# Altium schematic symbol library sym.SCHLIB: 33 symbols
Pins are listed as number, name and electrical type; pins without a type are passive.

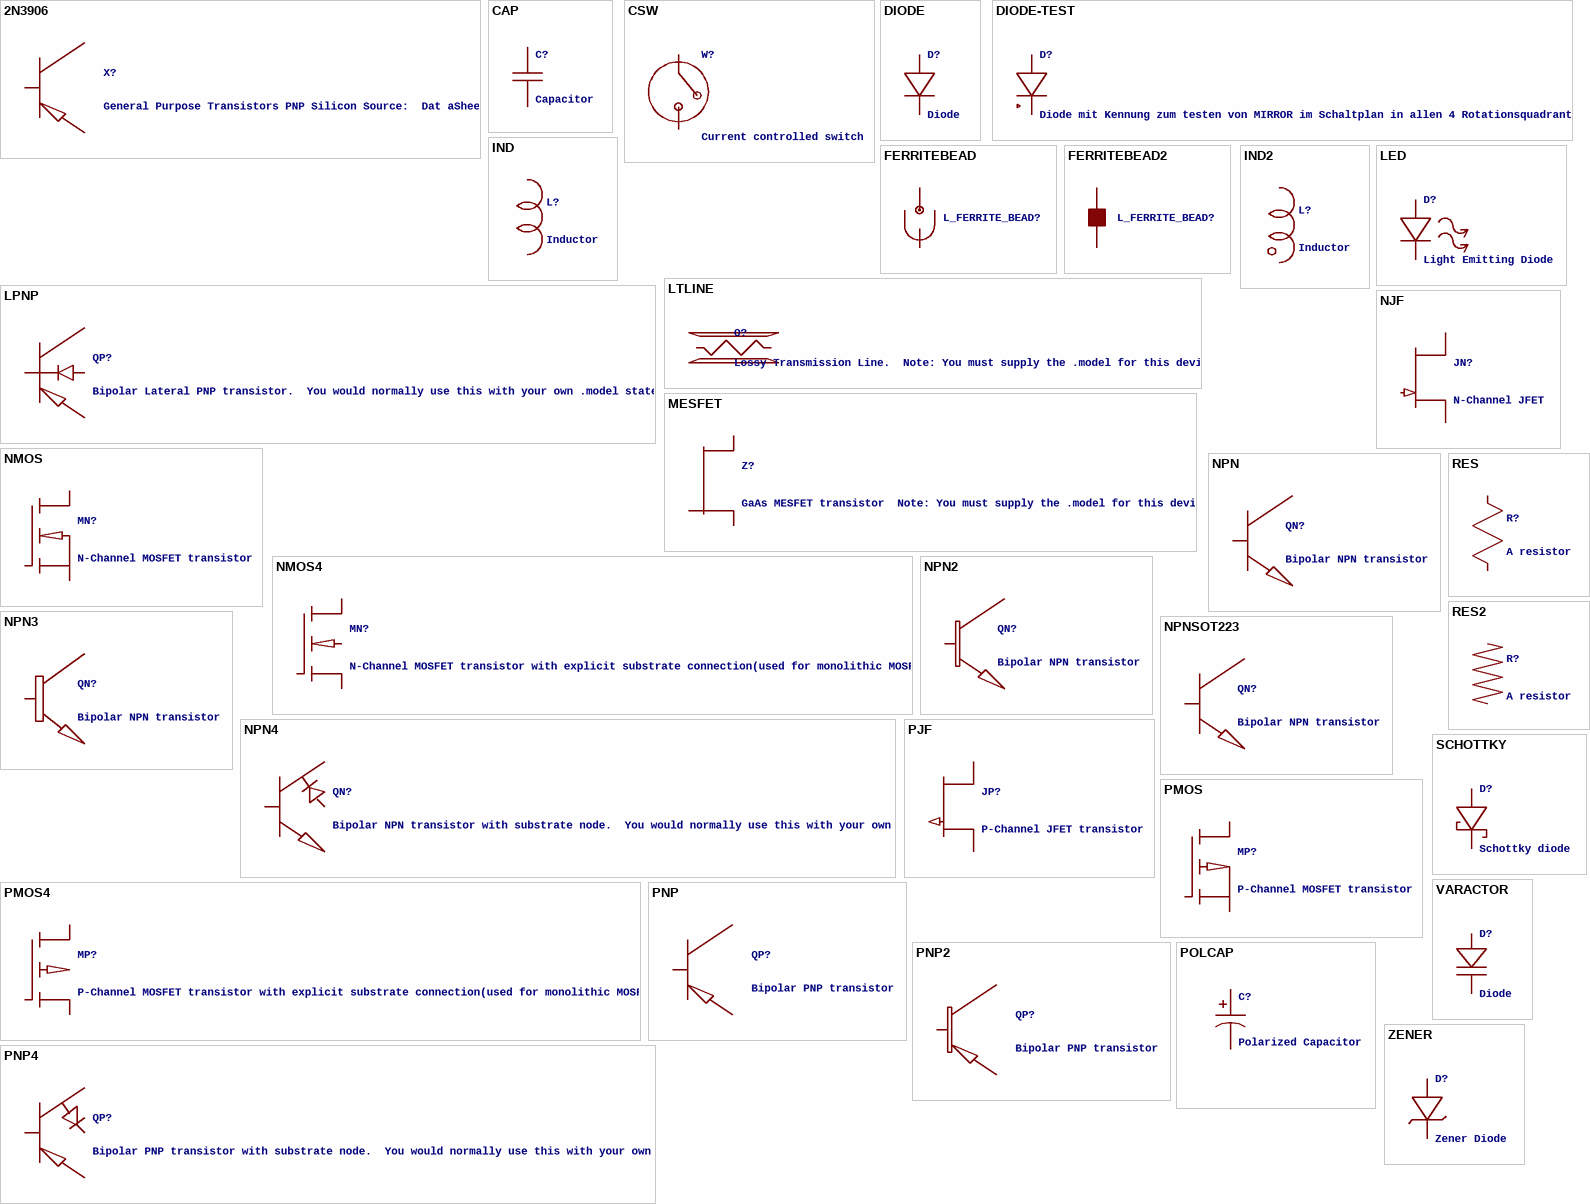
[diagram p0: symbols 2N3906 to ZENER]

## 2N3906
designator X?, comment General Purpose Transistors PNP Silicon Source:  Dat aSheet
footprint TO92
pins: 1 C, 2 B, 3 E

## CAP
designator C?, comment Capacitor
footprint C0805
pins: 1 A, 2 B

## CSW
designator W?, comment Current controlled switch
pins: ?1 +, ?2 -

## DIODE
designator D?, comment Diode
footprint SOD123
pins: A +, C -

## DIODE-TEST
designator D?, comment Diode mit Kennung zum testen von MIRROR im Schaltplan in allen 4 Rotationsquadranten!
pins: ?1 +, ?2 -

## FERRITEBEAD
designator L_FERRITE_BEAD?, comment A Ferrite Bead  (value not drawn)
footprint 0207/7
pins: 1 A, 2 B

## FERRITEBEAD2
designator L_FERRITE_BEAD?, comment A Ferrite Bead(Alternate symbol)  (value not drawn)
footprint 0207/7
pins: 1 A, 2 B

## IND
designator L?, comment Inductor
footprint L1812
pins: 1 A, 2 B

## IND2
designator L?, comment Inductor
footprint L1812
pins: 1 A, 2 B

## LED
designator D?, comment Light Emitting Diode
SPICEMODEL: NONE; SPICETYPE: diode
footprint R0805
pins: 1 +, 2 -

## LPNP
designator QP?, comment Bipolar Lateral PNP transistor.  You would normally use this with your own .model statement.
pins: ?1 C, ?2 B, ?3 E, ?4 S

## LTLINE
designator O?, comment Lossy Transmission Line.  Note: You must supply the .model for this device
pins: ?1 I1, ?2 R1, ?3 I2, ?4 R2

## MESFET
designator Z?, comment GaAs MESFET transistor  Note: You must supply the .model for this device
pins: ?1 D, ?2 G, ?3 S

## NJF
designator JN?, comment N-Channel JFET
footprint SOT23
pins: 1 G, 2 D, 3 S

## NMOS
designator MN?, comment N-Channel MOSFET transistor
footprint SOT23
pins: 1 G, 2 S, 3 D

## NMOS4
designator MN?, comment N-Channel MOSFET transistor with explicit substrate connection(used for monolithic MOSFETS)
pins: ?1 D, ?2 G, ?3 S, ?4 B

## NPN
designator QN?, comment Bipolar NPN transistor
footprint SOT23
pins: 1 E, 2 B, 3 C

## NPN2
designator QN?, comment Bipolar NPN transistor
pins: ?1 C, ?2 B, ?3 E

## NPN3
designator QN?, comment Bipolar NPN transistor
footprint SOT23
pins: 1 B, 2 E, 3 C

## NPN4
designator QN?, comment Bipolar NPN transistor with substrate node.  You would normally use this with your own .model statement.
pins: ?1 C, ?2 B, ?3 E, ?4 S

## NPNSOT223
designator QN?, comment Bipolar NPN transistor
footprint SOT223
pins: 1 E, 2 4 C, 3 B

## PJF
designator JP?, comment P-Channel JFET transistor
pins: ?1 D, ?2 G, ?3 S

## PMOS
designator MP?, comment P-Channel MOSFET transistor
footprint SOT23
pins: 1 G, 2 S, 3 D

## PMOS4
designator MP?, comment P-Channel MOSFET transistor with explicit substrate connection(used for monolithic MOSFETS)
pins: ?1 D, ?2 G, ?3 S, ?4 B

## PNP
designator QP?, comment Bipolar PNP transistor
footprint SOT23
pins: 1 E, 2 B, 3 C

## PNP2
designator QP?, comment Bipolar PNP transistor
pins: ?1 C, ?2 B, ?3 E

## PNP4
designator QP?, comment Bipolar PNP transistor with substrate node.  You would normally use this with your own .model statement.
DEFSUBSTRATE: exterior
pins: ?1 C, ?2 B, ?3 E, ?4 S

## POLCAP
designator C?, comment Polarized Capacitor
footprint PANASONIC_D
pins: + A, - B

## RES
designator R?, comment A resistor
footprint R0805
pins: 1 A, 2 B

## RES2
designator R?, comment A resistor
pins: ?1 A, ?2 B

## SCHOTTKY
designator D?, comment Schottky diode
footprint SOD123
pins: A +, C -

## VARACTOR
designator D?, comment Diode
footprint SOD123
pins: A +, C -

## ZENER
designator D?, comment Zener Diode
footprint SOD123
pins: A +, C -